# EAGLE library part AY-3-8913 (library ay3891x)
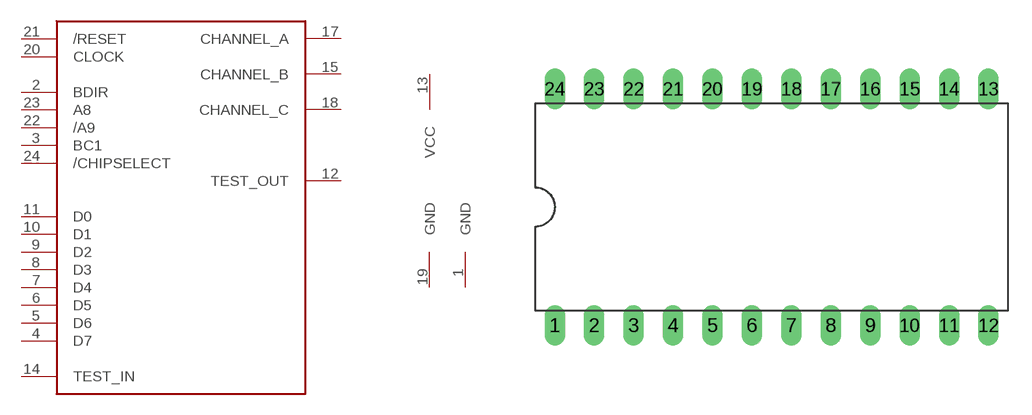
[diagram p2: symbol with the pads of DIL24; footprint DIL24]

Designator prefix -; gates G$2=PWR G$1=GND G$3=AY-3-8913

## AY-3-8913  [DIL24]
1  G$1:GND  pwr
2  G$3:BDIR  in
3  G$3:BC1  in
4  G$3:D7
5  G$3:D6
6  G$3:D5
7  G$3:D4
8  G$3:D3
9  G$3:D2
10  G$3:D1
11  G$3:D0
12  G$3:TEST_OUT  out
13  G$2:VCC  pwr
14  G$3:TEST_IN  in
15  G$3:CHANNEL_B  out
17  G$3:CHANNEL_A  out
18  G$3:CHANNEL_C  out
19  G$2:GND  pwr
20  G$3:CLOCK  in
21  G$3:/RESET  in
22  G$3:/A9  in
23  G$3:A8  in
24  G$3:/CHIPSELECT  in

## Footprint DIL24 (pad centres in mm)
drill 0.8 long: 1 -13.97,-7.62; 2 -11.43,-7.62; 3 -8.89,-7.62; 4 -6.35,-7.62; 5 -3.81,-7.62; 6 -1.27,-7.62; 7 1.27,-7.62; 8 3.81,-7.62; 9 6.35,-7.62; 10 8.89,-7.62; 11 11.43,-7.62; 12 13.97,-7.62; 13 13.97,7.62; 14 11.43,7.62; 15 8.89,7.62; 16 6.35,7.62; 17 3.81,7.62; 18 1.27,7.62; 19 -1.27,7.62; 20 -3.81,7.62; 21 -6.35,7.62; 22 -8.89,7.62; 23 -11.43,7.62; 24 -13.97,7.62